# Altium footprint library PIC16F18325.PcbLib: 3 footprints
Each footprint in its own frame and in the unit in brackets; x right, y up, seen from the top. Pads: shape width x height; smd on the part's side, far side on the other; paste and mask are expansions set on the pad; w line width, h text height; cw(c..) or ccw(c..) is an arc to the next point about the centre after c.
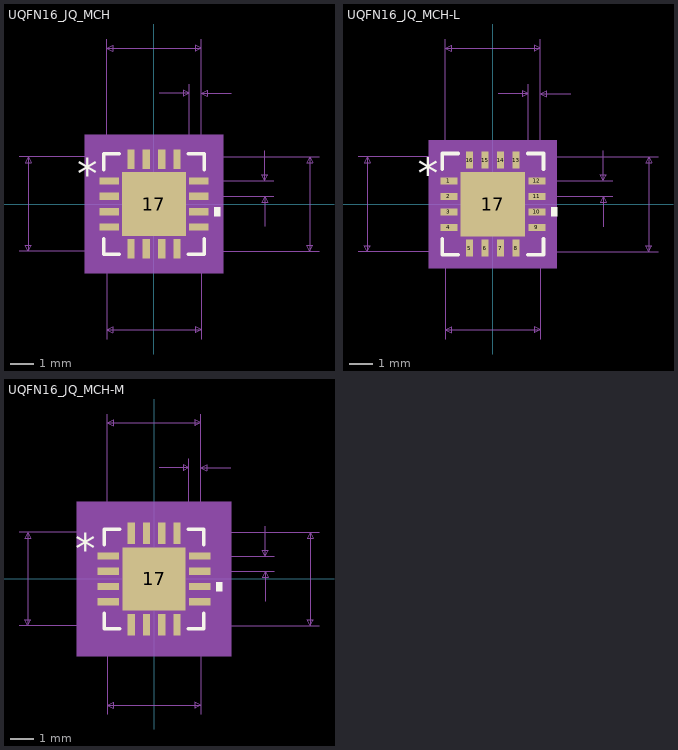
[diagram p0: the footprints below, top view; thin cyan lines are the x and y axes]

## UQFN16_JQ_MCH [mil]
pads (17):
  rect 32x12 smd paste+0 mask+0: 1(-74.5,38.39) 2(-74.5,12.8) 3(-74.5,-12.8) 4(-74.5,-38.39) 9(74.5,-38.39) 10(74.5,-12.8) 11(74.5,12.8) 12(74.5,38.39)
  rect 12x32 smd paste+0 mask+0: 5(-38.39,-74.5) 6(-12.8,-74.5) 7(12.8,-74.5) 8(38.39,-74.5) 13(38.39,74.5) 14(12.8,74.5) 15(-12.8,74.5) 16(-38.39,74.5)
  rect 106x106 smd paste-52.5 mask+0: 17(0,0)
Top Overlay:
  region: 100.5,-5.3 110.5,-5.3 110.5,-20.3 100.5,-20.3
  lines w6: -83.5,-57.49 -83.5,-83.5 -57.49,-83.5 ; -83.5,57.49 -83.5,83.5 -57.49,83.5 ; 57.49,-83.5 83.5,-83.5 83.5,-57.49 ; 57.49,83.5 83.5,83.5 83.5,57.49
  text "*" at -128,26.18 h50
Top Paste:
  region: -3.94,49.06 -49.06,49.06 -49.06,3.94 -3.94,3.94
  region: -3.94,-3.94 -49.06,-3.94 -49.06,-49.06 -3.94,-49.06
  region: 49.06,49.06 3.94,49.06 3.94,3.94 49.06,3.94
  region: 49.06,-3.94 3.94,-3.94 3.94,-49.06 49.06,-49.06
Mechanical 5:
  region: 115.5,-115.5 -115.5,-115.5 -115.5,115.5 115.5,115.5
Mechanical 7:
  lines w1: -224.5,-78.5 78.5,-78.5 ; -224.5,78.5 78.5,78.5 78.5,-224.5 ; -78.5,-224.5 -78.5,78.5 ; -78.5,38.39 -78.5,274.5 ; 8.5,184.5 58.5,184.5 ; 38.39,-78.5 274.5,-78.5 ; 38.39,78.5 274.5,78.5 ; 58.5,38.39 58.5,199.5 ; 74.5,12.8 199.5,12.8 ; 74.5,38.39 199.5,38.39 ; 78.5,199.5 78.5,38.39 78.5,274.5 ; 128.5,184.5 78.5,184.5 ; 184.5,-37.2 184.5,12.8 ; 184.5,88.39 184.5,38.39 ; -209.5,-78.5 -209.5,78.5 ; -209.5,-78.5 -214.5,-68.5 -204.5,-68.5 -209.5,-78.5 ; -209.5,78.5 -214.5,68.5 -204.5,68.5 -209.5,78.5 ; -78.5,-209.5 78.5,-209.5 ; -78.5,-209.5 -68.5,-204.5 -68.5,-214.5 -78.5,-209.5 ; -78.5,259.5 78.5,259.5 ; -78.5,259.5 -68.5,264.5 -68.5,254.5 -78.5,259.5 ; 58.5,184.5 48.5,189.5 48.5,179.5 58.5,184.5 ; 78.5,-209.5 68.5,-204.5 68.5,-214.5 78.5,-209.5 ; 78.5,184.5 88.5,189.5 88.5,179.5 78.5,184.5 ; 78.5,259.5 68.5,264.5 68.5,254.5 78.5,259.5 ; 184.5,12.8 179.5,2.8 189.5,2.8 184.5,12.8 ; 184.5,38.39 179.5,48.39 189.5,48.39 184.5,38.39 ; 259.5,-78.5 259.5,78.5 ; 259.5,-78.5 254.5,-68.5 264.5,-68.5 259.5,-78.5 ; 259.5,78.5 254.5,68.5 264.5,68.5 259.5,78.5
  text "Default Padstyle: RX12Y32D0T" at -350,-400.5 h50
  text "Heat Tab Padstyle: RX106Y106D0T" at -387.5,-460.5 h50
  text "Alt 1 Padstyle: OX60Y90D30P" at -337.5,-580.5 h50
  text "Alt 2 Padstyle: OX90Y60D30P" at -337.5,-640.5 h50
  text "0.026in/0.65mm" at 204.5,13.09 h25
  text "0.02in/0.508mm" at -19,204.5 h25
  text "0.157in/3.988mm" at -93.75,279.5 h25
  text "0.157in/3.988mm" at 279.5,-12.5 h25
  text "0.157in/3.988mm" at -417,-12.5 h25
  text "0.157in/3.988mm" at -93.75,-254.5 h25
Mechanical 13:
  lines w1: -78.5,28.5 -28.5,78.5 ; -78.5,-78.5 78.5,-78.5 ; -78.5,-78.5 -78.5,78.5 ; -78.5,-78.5 -78.5,-78.5 ; -78.5,-45.39 -78.5,-31.39 ; -78.5,-45.39 -78.5,-31.39 ; -78.5,-45.39 -78.5,-45.39 ; -78.5,-31.39 -78.5,-31.39 ; -78.5,-19.8 -78.5,-5.8 ; -78.5,-19.8 -78.5,-5.8 ; -78.5,-19.8 -78.5,-19.8 ; -78.5,-5.8 -78.5,-5.8 ; -78.5,5.8 -78.5,19.8 ; -78.5,5.8 -78.5,19.8 ; -78.5,5.8 -78.5,5.8 ; -78.5,19.8 -78.5,19.8 ; -78.5,31.39 -78.5,45.39 ; -78.5,31.39 -78.5,45.39 ; -78.5,31.39 -78.5,31.39 ; -78.5,45.39 -78.5,45.39 ; -78.5,78.5 78.5,78.5 ; -78.5,78.5 -78.5,78.5 ; -45.39,-78.5 -31.39,-78.5 ; -45.39,-78.5 -45.39,-78.5 ; -45.39,-78.5 -31.39,-78.5 ; -45.39,78.5 -31.39,78.5 ; -45.39,78.5 -31.39,78.5 ; -45.39,78.5 -45.39,78.5 ; -31.39,-78.5 -31.39,-78.5 ; -31.39,78.5 -31.39,78.5 ; -19.8,-78.5 -5.8,-78.5 ; -19.8,-78.5 -19.8,-78.5 ; -19.8,-78.5 -5.8,-78.5 ; -19.8,78.5 -5.8,78.5 ; -19.8,78.5 -5.8,78.5 ; -19.8,78.5 -19.8,78.5 ; -5.8,-78.5 -5.8,-78.5 ; -5.8,78.5 -5.8,78.5 ; 5.8,-78.5 19.8,-78.5 ; 5.8,-78.5 5.8,-78.5 ; 5.8,-78.5 19.8,-78.5 ; 5.8,78.5 19.8,78.5 ; 5.8,78.5 19.8,78.5 ; 5.8,78.5 5.8,78.5 ; 19.8,-78.5 19.8,-78.5 ; 19.8,78.5 19.8,78.5 ; 31.39,-78.5 45.39,-78.5 ; 31.39,-78.5 31.39,-78.5 ; 31.39,-78.5 45.39,-78.5 ; 31.39,78.5 45.39,78.5 ; 31.39,78.5 45.39,78.5 ; 31.39,78.5 31.39,78.5 ; 45.39,-78.5 45.39,-78.5 ; 45.39,78.5 45.39,78.5 ; 78.5,-78.5 78.5,-78.5 ; 78.5,-78.5 78.5,78.5 ; 78.5,-45.39 78.5,-31.39 ; 78.5,-45.39 78.5,-45.39 ; 78.5,-45.39 78.5,-31.39 ; 78.5,-31.39 78.5,-31.39 ; 78.5,-19.8 78.5,-5.8 ; 78.5,-19.8 78.5,-19.8 ; 78.5,-19.8 78.5,-5.8 ; 78.5,-5.8 78.5,-5.8 ; 78.5,5.8 78.5,19.8 ; 78.5,5.8 78.5,5.8 ; 78.5,5.8 78.5,19.8 ; 78.5,19.8 78.5,19.8 ; 78.5,31.39 78.5,45.39 ; 78.5,31.39 78.5,31.39 ; 78.5,31.39 78.5,45.39 ; 78.5,45.39 78.5,45.39 ; 78.5,78.5 78.5,78.5
  text "*" at -71,26.18 h50
Mechanical 15:
  region: -54.39,-88.5 -88.5,-88.5 -88.5,-54.39 -100.5,-54.39 -100.5,54.39 -88.5,54.39 -88.5,88.5 -54.39,88.5 -54.39,100.5 54.39,100.5 54.39,88.5 88.5,88.5 88.5,54.39 100.5,54.39 100.5,-54.39 88.5,-54.39 88.5,-88.5 54.39,-88.5 54.39,-100.5 -54.39,-100.5
  lines w6: -100.5,-54.39 -88.5,-54.39 -88.5,-88.5 -54.39,-88.5 -54.39,-100.5 54.39,-100.5 54.39,-88.5 88.5,-88.5 88.5,-54.39 100.5,-54.39 100.5,54.39 88.5,54.39 88.5,88.5 54.39,88.5 54.39,100.5 -54.39,100.5 -54.39,88.5 -88.5,88.5 -88.5,54.39 -100.5,54.39 -100.5,-54.39
3D body: height 10, standoff 0, extent 0,0 10,10

## UQFN16_JQ_MCH-L [mil]
pads (17):
  rect 28x12 smd paste+0 mask+0: 1(-72.5,38.39) 2(-72.5,12.8) 3(-72.5,-12.8) 4(-72.5,-38.39) 9(72.5,-38.39) 10(72.5,-12.8) 11(72.5,12.8) 12(72.5,38.39)
  rect 12x28 smd paste+0 mask+0: 5(-38.39,-72.5) 6(-12.8,-72.5) 7(12.8,-72.5) 8(38.39,-72.5) 13(38.39,72.5) 14(12.8,72.5) 15(-12.8,72.5) 16(-38.39,72.5)
  rect 106x106 smd paste-52.5 mask+0: 17(0,0)
Top Overlay:
  region: 96.5,-5.3 106.5,-5.3 106.5,-20.3 96.5,-20.3
  lines w6: -83.5,-57.49 -83.5,-83.5 -57.49,-83.5 ; -83.5,57.49 -83.5,83.5 -57.49,83.5 ; 57.49,-83.5 83.5,-83.5 83.5,-57.49 ; 57.49,83.5 83.5,83.5 83.5,57.49
  text "*" at -124,26.18 h50
Top Paste:
  region: -3.94,49.06 -49.06,49.06 -49.06,3.94 -3.94,3.94
  region: -3.94,-3.94 -49.06,-3.94 -49.06,-49.06 -3.94,-49.06
  region: 49.06,49.06 3.94,49.06 3.94,3.94 49.06,3.94
  region: 49.06,-3.94 3.94,-3.94 3.94,-49.06 49.06,-49.06
Mechanical 5:
  region: 105.5,-105.5 -105.5,-105.5 -105.5,105.5 105.5,105.5
Mechanical 7:
  lines w1: -222.5,-78.5 78.5,-78.5 ; -222.5,78.5 78.5,78.5 78.5,-222.5 ; -78.5,-222.5 -78.5,78.5 ; -78.5,38.39 -78.5,272.5 ; 8.5,182.5 58.5,182.5 ; 38.39,-78.5 272.5,-78.5 ; 38.39,78.5 272.5,78.5 ; 58.5,38.39 58.5,197.5 ; 72.5,12.8 197.5,12.8 ; 72.5,38.39 197.5,38.39 ; 78.5,197.5 78.5,38.39 78.5,272.5 ; 128.5,182.5 78.5,182.5 ; 182.5,-37.2 182.5,12.8 ; 182.5,88.39 182.5,38.39 ; -207.5,-78.5 -207.5,78.5 ; -207.5,-78.5 -212.5,-68.5 -202.5,-68.5 -207.5,-78.5 ; -207.5,78.5 -212.5,68.5 -202.5,68.5 -207.5,78.5 ; -78.5,-207.5 78.5,-207.5 ; -78.5,-207.5 -68.5,-202.5 -68.5,-212.5 -78.5,-207.5 ; -78.5,257.5 78.5,257.5 ; -78.5,257.5 -68.5,262.5 -68.5,252.5 -78.5,257.5 ; 58.5,182.5 48.5,187.5 48.5,177.5 58.5,182.5 ; 78.5,-207.5 68.5,-202.5 68.5,-212.5 78.5,-207.5 ; 78.5,182.5 88.5,187.5 88.5,177.5 78.5,182.5 ; 78.5,257.5 68.5,262.5 68.5,252.5 78.5,257.5 ; 182.5,12.8 177.5,2.8 187.5,2.8 182.5,12.8 ; 182.5,38.39 177.5,48.39 187.5,48.39 182.5,38.39 ; 257.5,-78.5 257.5,78.5 ; 257.5,-78.5 252.5,-68.5 262.5,-68.5 257.5,-78.5 ; 257.5,78.5 252.5,68.5 262.5,68.5 257.5,78.5
  text "Default Padstyle: RX12Y28D0T" at -350,-396.5 h50
  text "Heat Tab Padstyle: RX106Y106D0T" at -387.5,-456.5 h50
  text "Alt 1 Padstyle: OX60Y90D30P" at -337.5,-576.5 h50
  text "Alt 2 Padstyle: OX90Y60D30P" at -337.5,-636.5 h50
  text "0.026in/0.65mm" at 202.5,13.09 h25
  text "0.02in/0.508mm" at -19,202.5 h25
  text "0.157in/3.988mm" at -93.75,277.5 h25
  text "0.157in/3.988mm" at 277.5,-12.5 h25
  text "0.157in/3.988mm" at -415,-12.5 h25
  text "0.157in/3.988mm" at -93.75,-252.5 h25
Mechanical 13:
  lines w1: -78.5,28.5 -28.5,78.5 ; -78.5,-78.5 78.5,-78.5 ; -78.5,-78.5 -78.5,78.5 ; -78.5,-78.5 -78.5,-78.5 ; -78.5,-45.39 -78.5,-31.39 ; -78.5,-45.39 -78.5,-31.39 ; -78.5,-45.39 -78.5,-45.39 ; -78.5,-31.39 -78.5,-31.39 ; -78.5,-19.8 -78.5,-5.8 ; -78.5,-19.8 -78.5,-5.8 ; -78.5,-19.8 -78.5,-19.8 ; -78.5,-5.8 -78.5,-5.8 ; -78.5,5.8 -78.5,19.8 ; -78.5,5.8 -78.5,19.8 ; -78.5,5.8 -78.5,5.8 ; -78.5,19.8 -78.5,19.8 ; -78.5,31.39 -78.5,45.39 ; -78.5,31.39 -78.5,45.39 ; -78.5,31.39 -78.5,31.39 ; -78.5,45.39 -78.5,45.39 ; -78.5,78.5 78.5,78.5 ; -78.5,78.5 -78.5,78.5 ; -45.39,-78.5 -31.39,-78.5 ; -45.39,-78.5 -45.39,-78.5 ; -45.39,-78.5 -31.39,-78.5 ; -45.39,78.5 -31.39,78.5 ; -45.39,78.5 -31.39,78.5 ; -45.39,78.5 -45.39,78.5 ; -31.39,-78.5 -31.39,-78.5 ; -31.39,78.5 -31.39,78.5 ; -19.8,-78.5 -5.8,-78.5 ; -19.8,-78.5 -19.8,-78.5 ; -19.8,-78.5 -5.8,-78.5 ; -19.8,78.5 -5.8,78.5 ; -19.8,78.5 -5.8,78.5 ; -19.8,78.5 -19.8,78.5 ; -5.8,-78.5 -5.8,-78.5 ; -5.8,78.5 -5.8,78.5 ; 5.8,-78.5 19.8,-78.5 ; 5.8,-78.5 5.8,-78.5 ; 5.8,-78.5 19.8,-78.5 ; 5.8,78.5 19.8,78.5 ; 5.8,78.5 19.8,78.5 ; 5.8,78.5 5.8,78.5 ; 19.8,-78.5 19.8,-78.5 ; 19.8,78.5 19.8,78.5 ; 31.39,-78.5 45.39,-78.5 ; 31.39,-78.5 31.39,-78.5 ; 31.39,-78.5 45.39,-78.5 ; 31.39,78.5 45.39,78.5 ; 31.39,78.5 45.39,78.5 ; 31.39,78.5 31.39,78.5 ; 45.39,-78.5 45.39,-78.5 ; 45.39,78.5 45.39,78.5 ; 78.5,-78.5 78.5,-78.5 ; 78.5,-78.5 78.5,78.5 ; 78.5,-45.39 78.5,-31.39 ; 78.5,-45.39 78.5,-45.39 ; 78.5,-45.39 78.5,-31.39 ; 78.5,-31.39 78.5,-31.39 ; 78.5,-19.8 78.5,-5.8 ; 78.5,-19.8 78.5,-19.8 ; 78.5,-19.8 78.5,-5.8 ; 78.5,-5.8 78.5,-5.8 ; 78.5,5.8 78.5,19.8 ; 78.5,5.8 78.5,5.8 ; 78.5,5.8 78.5,19.8 ; 78.5,19.8 78.5,19.8 ; 78.5,31.39 78.5,45.39 ; 78.5,31.39 78.5,31.39 ; 78.5,31.39 78.5,45.39 ; 78.5,45.39 78.5,45.39 ; 78.5,78.5 78.5,78.5
  text "*" at -71,26.18 h50
Mechanical 15:
  region: -48.39,-82.5 -82.5,-82.5 -82.5,-48.39 -90.5,-48.39 -90.5,48.39 -82.5,48.39 -82.5,82.5 -48.39,82.5 -48.39,90.5 48.39,90.5 48.39,82.5 82.5,82.5 82.5,48.39 90.5,48.39 90.5,-48.39 82.5,-48.39 82.5,-82.5 48.39,-82.5 48.39,-90.5 -48.39,-90.5
  lines w6: -90.5,-48.39 -82.5,-48.39 -82.5,-82.5 -48.39,-82.5 -48.39,-90.5 48.39,-90.5 48.39,-82.5 82.5,-82.5 82.5,-48.39 90.5,-48.39 90.5,48.39 82.5,48.39 82.5,82.5 48.39,82.5 48.39,90.5 -48.39,90.5 -48.39,82.5 -82.5,82.5 -82.5,48.39 -90.5,48.39 -90.5,-48.39
3D body: height 10, standoff 0, extent 0,0 10,10

## UQFN16_JQ_MCH-M [mil]
pads (17):
  rect 36x12 smd paste+0 mask+0: 1(-76.5,38.39) 2(-76.5,12.8) 3(-76.5,-12.8) 4(-76.5,-38.39) 9(76.5,-38.39) 10(76.5,-12.8) 11(76.5,12.8) 12(76.5,38.39)
  rect 12x36 smd paste+0 mask+0: 5(-38.39,-76.5) 6(-12.8,-76.5) 7(12.8,-76.5) 8(38.39,-76.5) 13(38.39,76.5) 14(12.8,76.5) 15(-12.8,76.5) 16(-38.39,76.5)
  rect 106x106 smd paste-52.5 mask+0: 17(0,0)
Top Overlay:
  region: 104.5,-5.3 114.5,-5.3 114.5,-20.3 104.5,-20.3
  lines w6: -83.5,-57.49 -83.5,-83.5 -57.49,-83.5 ; -83.5,57.49 -83.5,83.5 -57.49,83.5 ; 57.49,-83.5 83.5,-83.5 83.5,-57.49 ; 57.49,83.5 83.5,83.5 83.5,57.49
  text "*" at -132,26.18 h50
Top Paste:
  region: -3.94,49.06 -49.06,49.06 -49.06,3.94 -3.94,3.94
  region: -3.94,-3.94 -49.06,-3.94 -49.06,-49.06 -3.94,-49.06
  region: 49.06,49.06 3.94,49.06 3.94,3.94 49.06,3.94
  region: 49.06,-3.94 3.94,-3.94 3.94,-49.06 49.06,-49.06
Mechanical 5:
  region: 129.5,-129.5 -129.5,-129.5 -129.5,129.5 129.5,129.5
Mechanical 7:
  lines w1: -226.5,-78.5 78.5,-78.5 ; -226.5,78.5 78.5,78.5 78.5,-226.5 ; -78.5,-226.5 -78.5,78.5 ; -78.5,38.39 -78.5,276.5 ; 8.5,186.5 58.5,186.5 ; 38.39,-78.5 276.5,-78.5 ; 38.39,78.5 276.5,78.5 ; 58.5,38.39 58.5,201.5 ; 76.5,12.8 201.5,12.8 ; 76.5,38.39 201.5,38.39 ; 78.5,201.5 78.5,38.39 78.5,276.5 ; 128.5,186.5 78.5,186.5 ; 186.5,-37.2 186.5,12.8 ; 186.5,88.39 186.5,38.39 ; -211.5,-78.5 -211.5,78.5 ; -211.5,-78.5 -216.5,-68.5 -206.5,-68.5 -211.5,-78.5 ; -211.5,78.5 -216.5,68.5 -206.5,68.5 -211.5,78.5 ; -78.5,-211.5 78.5,-211.5 ; -78.5,-211.5 -68.5,-206.5 -68.5,-216.5 -78.5,-211.5 ; -78.5,261.5 78.5,261.5 ; -78.5,261.5 -68.5,266.5 -68.5,256.5 -78.5,261.5 ; 58.5,186.5 48.5,191.5 48.5,181.5 58.5,186.5 ; 78.5,-211.5 68.5,-206.5 68.5,-216.5 78.5,-211.5 ; 78.5,186.5 88.5,191.5 88.5,181.5 78.5,186.5 ; 78.5,261.5 68.5,266.5 68.5,256.5 78.5,261.5 ; 186.5,12.8 181.5,2.8 191.5,2.8 186.5,12.8 ; 186.5,38.39 181.5,48.39 191.5,48.39 186.5,38.39 ; 261.5,-78.5 261.5,78.5 ; 261.5,-78.5 256.5,-68.5 266.5,-68.5 261.5,-78.5 ; 261.5,78.5 256.5,68.5 266.5,68.5 261.5,78.5
  text "Default Padstyle: RX12Y36D0T" at -350,-404.5 h50
  text "Heat Tab Padstyle: RX106Y106D0T" at -387.5,-464.5 h50
  text "Alt 1 Padstyle: OX60Y90D30P" at -337.5,-584.5 h50
  text "Alt 2 Padstyle: OX90Y60D30P" at -337.5,-644.5 h50
  text "0.026in/0.65mm" at 206.5,13.09 h25
  text "0.02in/0.508mm" at -19,206.5 h25
  text "0.157in/3.988mm" at -93.75,281.5 h25
  text "0.157in/3.988mm" at 281.5,-12.5 h25
  text "0.157in/3.988mm" at -419,-12.5 h25
  text "0.157in/3.988mm" at -93.75,-256.5 h25
Mechanical 13:
  lines w1: -78.5,28.5 -28.5,78.5 ; -78.5,-78.5 78.5,-78.5 ; -78.5,-78.5 -78.5,78.5 ; -78.5,-78.5 -78.5,-78.5 ; -78.5,-45.39 -78.5,-31.39 ; -78.5,-45.39 -78.5,-31.39 ; -78.5,-45.39 -78.5,-45.39 ; -78.5,-31.39 -78.5,-31.39 ; -78.5,-19.8 -78.5,-5.8 ; -78.5,-19.8 -78.5,-5.8 ; -78.5,-19.8 -78.5,-19.8 ; -78.5,-5.8 -78.5,-5.8 ; -78.5,5.8 -78.5,19.8 ; -78.5,5.8 -78.5,19.8 ; -78.5,5.8 -78.5,5.8 ; -78.5,19.8 -78.5,19.8 ; -78.5,31.39 -78.5,45.39 ; -78.5,31.39 -78.5,45.39 ; -78.5,31.39 -78.5,31.39 ; -78.5,45.39 -78.5,45.39 ; -78.5,78.5 78.5,78.5 ; -78.5,78.5 -78.5,78.5 ; -45.39,-78.5 -31.39,-78.5 ; -45.39,-78.5 -45.39,-78.5 ; -45.39,-78.5 -31.39,-78.5 ; -45.39,78.5 -31.39,78.5 ; -45.39,78.5 -31.39,78.5 ; -45.39,78.5 -45.39,78.5 ; -31.39,-78.5 -31.39,-78.5 ; -31.39,78.5 -31.39,78.5 ; -19.8,-78.5 -5.8,-78.5 ; -19.8,-78.5 -19.8,-78.5 ; -19.8,-78.5 -5.8,-78.5 ; -19.8,78.5 -5.8,78.5 ; -19.8,78.5 -5.8,78.5 ; -19.8,78.5 -19.8,78.5 ; -5.8,-78.5 -5.8,-78.5 ; -5.8,78.5 -5.8,78.5 ; 5.8,-78.5 19.8,-78.5 ; 5.8,-78.5 5.8,-78.5 ; 5.8,-78.5 19.8,-78.5 ; 5.8,78.5 19.8,78.5 ; 5.8,78.5 19.8,78.5 ; 5.8,78.5 5.8,78.5 ; 19.8,-78.5 19.8,-78.5 ; 19.8,78.5 19.8,78.5 ; 31.39,-78.5 45.39,-78.5 ; 31.39,-78.5 31.39,-78.5 ; 31.39,-78.5 45.39,-78.5 ; 31.39,78.5 45.39,78.5 ; 31.39,78.5 45.39,78.5 ; 31.39,78.5 31.39,78.5 ; 45.39,-78.5 45.39,-78.5 ; 45.39,78.5 45.39,78.5 ; 78.5,-78.5 78.5,-78.5 ; 78.5,-78.5 78.5,78.5 ; 78.5,-45.39 78.5,-31.39 ; 78.5,-45.39 78.5,-45.39 ; 78.5,-45.39 78.5,-31.39 ; 78.5,-31.39 78.5,-31.39 ; 78.5,-19.8 78.5,-5.8 ; 78.5,-19.8 78.5,-19.8 ; 78.5,-19.8 78.5,-5.8 ; 78.5,-5.8 78.5,-5.8 ; 78.5,5.8 78.5,19.8 ; 78.5,5.8 78.5,5.8 ; 78.5,5.8 78.5,19.8 ; 78.5,19.8 78.5,19.8 ; 78.5,31.39 78.5,45.39 ; 78.5,31.39 78.5,31.39 ; 78.5,31.39 78.5,45.39 ; 78.5,45.39 78.5,45.39 ; 78.5,78.5 78.5,78.5
  text "*" at -71,26.18 h50
Mechanical 15:
  region: -64.39,-98.5 -98.5,-98.5 -98.5,-64.39 -114.5,-64.39 -114.5,64.39 -98.5,64.39 -98.5,98.5 -64.39,98.5 -64.39,114.5 64.39,114.5 64.39,98.5 98.5,98.5 98.5,64.39 114.5,64.39 114.5,-64.39 98.5,-64.39 98.5,-98.5 64.39,-98.5 64.39,-114.5 -64.39,-114.5
  lines w6: -114.5,-64.39 -98.5,-64.39 -98.5,-98.5 -64.39,-98.5 -64.39,-114.5 64.39,-114.5 64.39,-98.5 98.5,-98.5 98.5,-64.39 114.5,-64.39 114.5,64.39 98.5,64.39 98.5,98.5 64.39,98.5 64.39,114.5 -64.39,114.5 -64.39,98.5 -98.5,98.5 -98.5,64.39 -114.5,64.39 -114.5,-64.39
3D body: height 10, standoff 0, extent 0,0 10,10